# EAGLE library part CH340G (library CH340G)
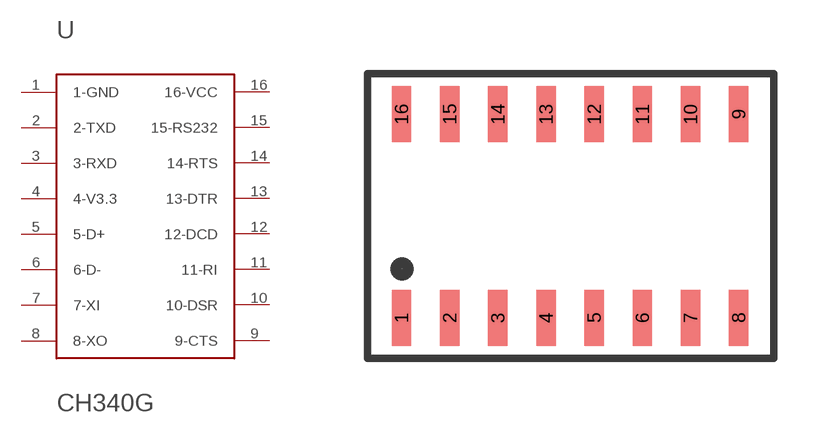
[diagram p0: symbol with the pads of SO16; footprint SO16]

Designator prefix -

## CH340G  [SO16]
1  1-GND
2  2-TXD
3  3-RXD
4  4-V3.3
5  5-D+
6  6-D-
7  7-XI
8  8-XO
9  9-CTS
10  10-DSR
11  11-RI
12  12-DCD
13  13-DTR
14  14-RTS
15  15-RS232
16  16-VCC

## Footprint SO16 (pad centres in mm)
smd 0.51 x 1.47: 1 -3.81,-2.685; 2 -2.54,-2.685; 3 -1.27,-2.685; 4 0,-2.685; 5 1.27,-2.685; 6 2.54,-2.685; 7 3.81,-2.685; 8 5.08,-2.685; 9 5.08,2.685; 10 3.81,2.685; 11 2.54,2.685; 12 1.27,2.685; 13 0,2.685; 14 -1.27,2.685; 15 -2.54,2.685; 16 -3.81,2.685